# EAGLE library part WE-RJ45_74980100000 (library 74980104400_Eagle_WE-RJ45_rev19b)
WE-RJ45 LAN Transformer Characteristics RJ45 Connector with integrated transformer / common mode choke Power over Ethernet up to 50 Watt and speeds up to 10 Gbit/s Available in SMD, THT and THT with USB Compliant with standards: IEEE 802.3u, IEEE 802.3ab, IEEE 802.3af, IEEE 802.3at, IEEE 802.3an and upcoming IEE 802.3bt Applications Suitable for industrial temperatures from –40 °C up to +85 °C Compatible to Industrial Ethernet systems like EtherCAT or Profinet Compliant with most IC’s for Ethernet applications such as Microchip, Texas Instruments, Broadcom, Linear Technology Hubs, Routers, Switches, IP cameras, IoT applications <https://katalog.we-online.com/media/images/v2/o35731v209%20Family_WE-RJ45-LAN.jpg> Details see: https://katalog.we-online.com/en/pbs/WE-LAN-RJ45 Updated by Ella Wu 2019-11-06 2019 (C) Wurth Elektronik
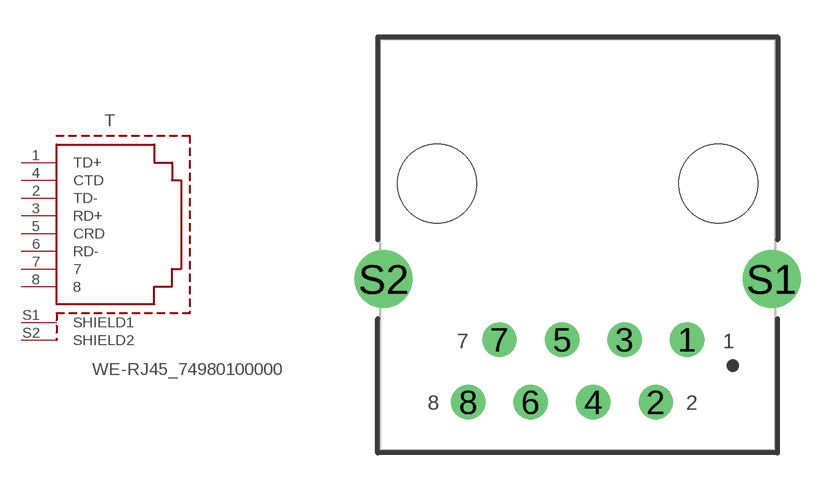
[diagram p31: symbol with the pads of 74980100000; footprint 74980100000]

Designator prefix T

## WE-RJ45_74980100000 (DATA-RATE: 10/100 Base-T; DATASHEET-URL: https://katalog.we-online.com/pbs/datasheet/74980100000.pdf; LED: ; MOUNT: THR; PART-NUMBER: 74980100000; POE: 1; PORTS: non-PoE; USB: No)  [74980100000]
1  TD+
2  TD-
3  RD+
4  CTD
5  CRD
6  RD-
7  7
8  8
S1  SHIELD1  pwr
S2  SHIELD2  pwr

## Footprint 74980100000 (pad centres in mm)
WE-RJ45 LAN Transformer 10/100 Base-T
drill 0.89: 1 4.445,-6.35; 2 3.175,-8.89; 3 1.905,-6.35; 4 0.635,-8.89; 5 -0.635,-6.35; 6 -1.905,-8.89; 7 -3.175,-6.35; 8 -4.445,-8.89
drill 1.57: S1 7.875,-3.89; S2 -7.875,-3.89
hole 3.2 at -5.715,0
hole 3.2 at 5.715,0